# Altium schematic symbol library B-NT_CHIPS.SchLib: 157 symbols (part 1 of 4)
Pins are listed as number, name and electrical type; pins without a type are passive.

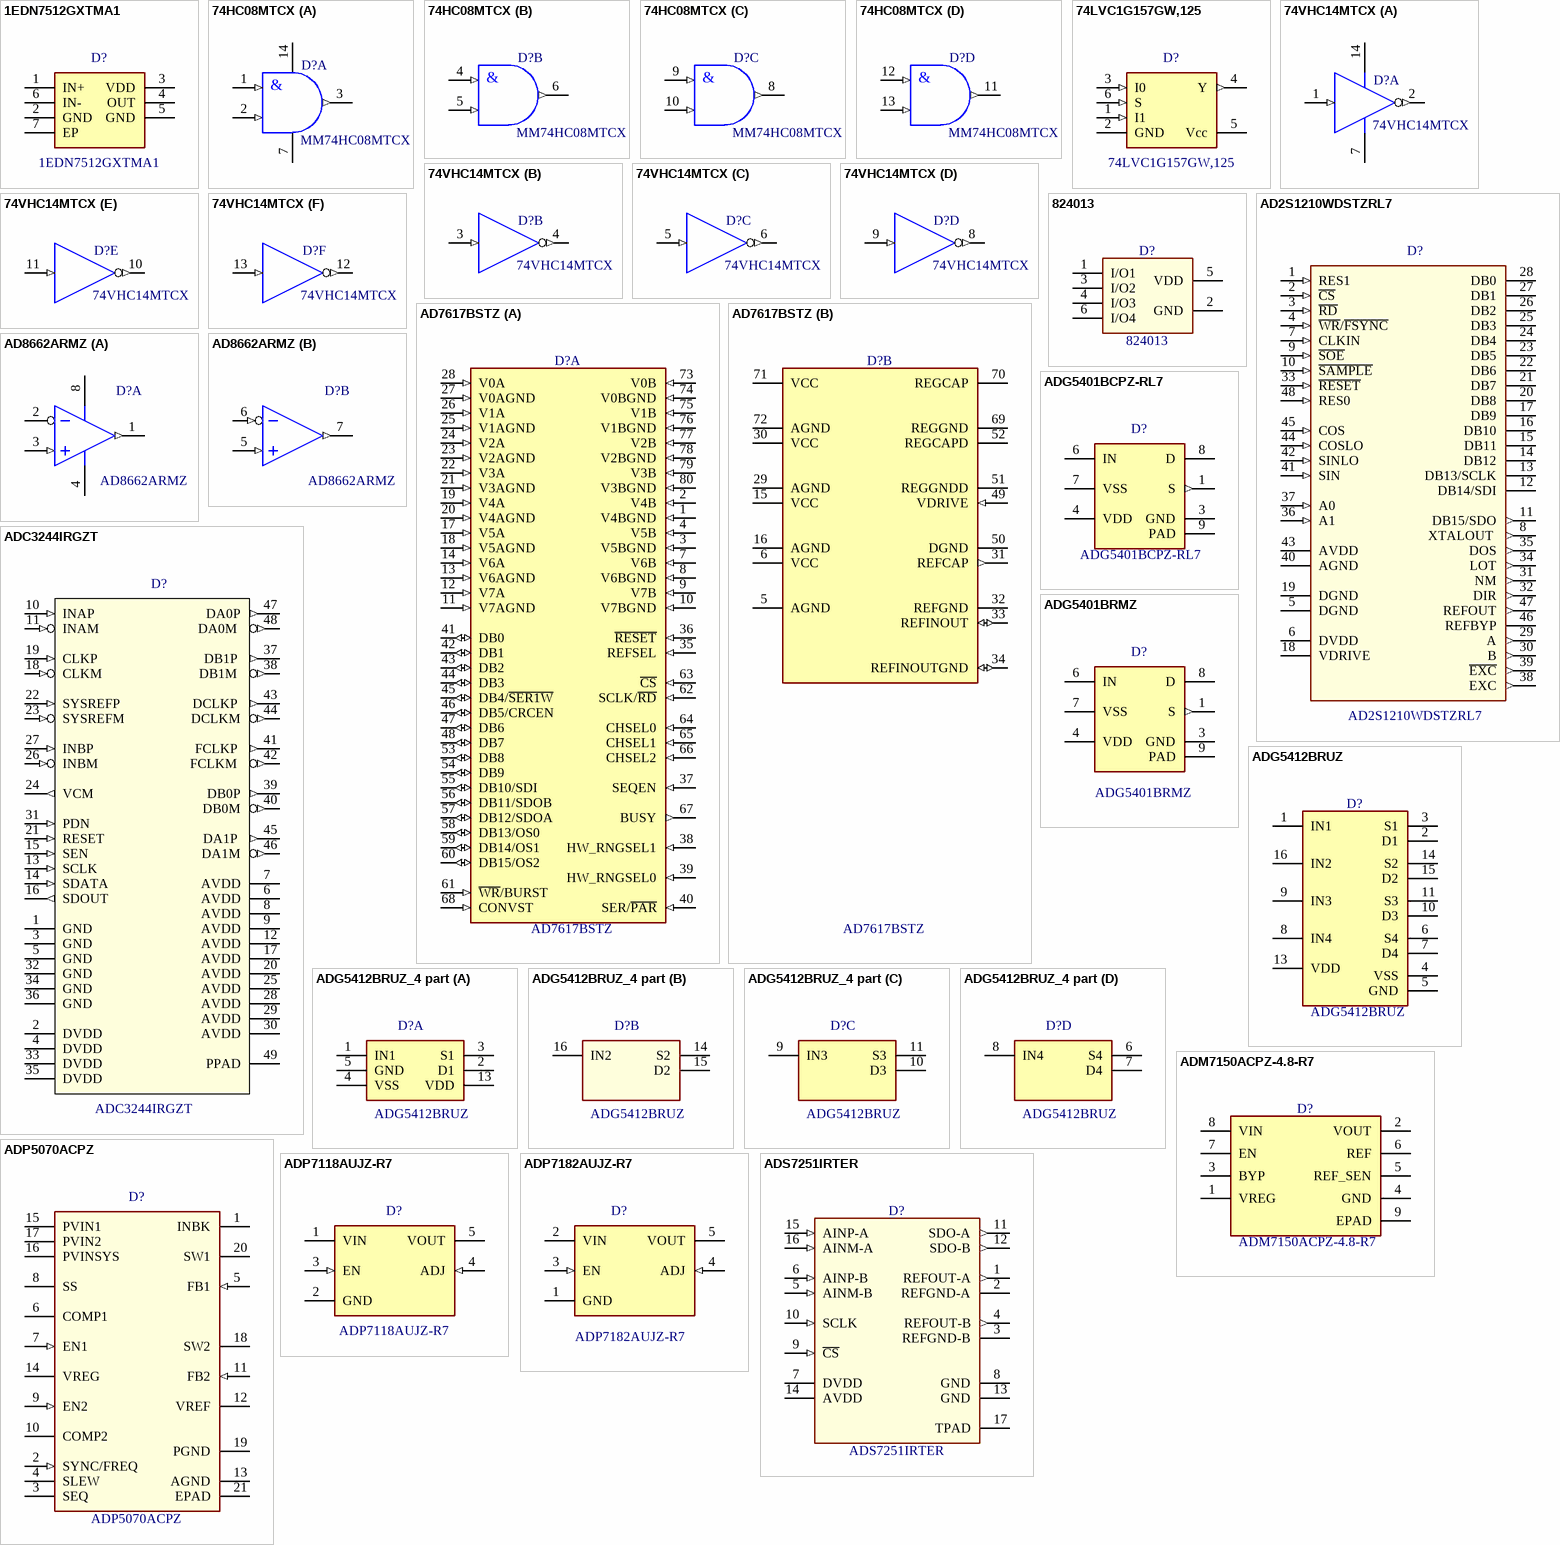
[diagram p0: symbols 1EDN7512GXTMA1 to ADS7251IRTER]

## 1EDN7512GXTMA1
designator D?  value 1EDN7512GXTMA1
IC GATE DVR LOW SIDE 1CH PG-WSON-6-1; ValueManufacturer: Infineon Technologies; PowerVoltage: 4.5 V ~ 20 V; ValueType: Gate Drivers; ValueDescription: 1EDN7512GXTMA1 Одноканальный драйвер 4.5 V ~ 20 V  6WSOP(PG-WSON-6-1); Price: 1.13; Package: 6WSOP(PG-WSON-6-1); ValueManufacturerPartNumber: 1EDN7512GXTMA1; Operating Temperature: -40°C ~ 150°C (TJ); CheckDate: SC *; ComponentLink2Description: Infineon Technologies Datasheet; ComponentLink2URL: https://www.infineon.com/dgdl/Infineon-1DN751x_1EDN851x_Rev+2.0-DS-v02_00-EN.pdf?fileId=5546d462576f34750157e176df0b3ca7
footprint PG-WSON-6-3х3-0.95
pins: 1 IN+, 2 GND (power), 3 VDD (power), 4 OUT, 5 GND (power), 6 IN-, 7 EP

## 74HC08MTCX
designator D?  value MM74HC08MTCX
GATE AND 4CH 2-INP 14-TSSOP; ValueManufacturer: Fairchild/ON Semiconductor; PowerVoltage: 2V~5.5V; ValueDescription: MM74HC08MTCX  Логика 4х2И  2V~5.5V  14-TSSOP (4.40mm); ValueType: Logical AND; Price: 0.38; ComponentLink1Description: Fairchild  Datasheet; ComponentLink1URL: https://www.fairchildsemi.com/datasheets/MM/MM74HC08.pdf; Package: 14-TSSOP (4.40mm); ValueManufacturerPartNumber: MM74HC08MTCX; Operating Temperature: -40°C~85°C; CheckDate: SC 22.03.17
footprint SSOP-14-4.4X5-0.65 (TSSOP, 14-Leads, Body 5.0x4.5mm (max), Pitch 0.65mm, IPC Medium Density)
part A pins: 1 INA (in), 2 INB (in), 3 OUT. (out), 7 VSS, 14 VDD
part B pins: 4 INA (in), 5 INB (in), 6 OUT (out)
part C pins: 8 OUT (out), 9 INA (in), 10 INB (in)
part D pins: 11 OUT (out), 12 INA (in), 13 INB (in)
part A text: &
part B text: &
part C text: &
part D text: &

## 74LVC1G157GW,125
designator D?  value 74LVC1G157GW,125
IC SINGLE 2-INPUT MUX 6TSSOP; ValueManufacturer: Nexperia USA Inc; PowerVoltage: 1.65 V ~ 5.5 V; ValueType: Multiplexers; ValueDescription: 74LVC1G157GW,125 Мультиплексор 1.65 V ~ 5.5 V  6-TSSOP, SC-88, SOT-363; Price: 0.49; Package: 6-TSSOP, SC-88, SOT-363; ValueManufacturerPartNumber: 74LVC1G157GW,125; Operating Temperature: -40°C ~ 125°C; CheckDate: SC *; ComponentLink2Description: Nexperia  Datasheet; ComponentLink2URL: https://assets.nexperia.com/documents/data-sheet/74LVC1G157.pdf
footprint SOT363-6-1.25X2.1-0.65 (TSOP, 6-Leads, Body 2,00x1,25mm, Pitch 0,65mm, IPC Medium Density)
pins: 1 I1 (in), 2 GND (power), 3 I0 (in), 4 Y (out), 5 Vcc (power), 6 S (in)

## 74VHC14MTCX
designator D?  value 74VHC14MTCX
6Ch Inverter Schmitt Trigger 14-TSSOP; ValueManufacturer: Fairchild/ON Semiconductor; PowerVoltage: 2V~5.5V; ValueDescription: 74VHC14MTCX Инвертор 6-каналов  2V~5.5V  14-TSSOP (4.40mm); Price: 0.38; ComponentLink1Description: Fairchild  Datasheet; ComponentLink1URL: https://www.fairchildsemi.com/datasheets/74/74VHC14.pdf; Package: 14-TSSOP (4.40mm); ValueManufacturerPartNumber: 74VHC14MTCX; ValueType: 6Ch Inverter; Operating Temperature: -40°C~85°C; CheckDate: SC 22.03.17
footprint SSOP-14-4.4X5-0.65 (TSSOP, 14-Leads, Body 5.0x4.5mm (max), Pitch 0.65mm, IPC Medium Density)
part A pins: 1 IN+ (in), 2 OUT (out), 7 VSS, 14 VDD
part B pins: 3 IN (in), 4 OUT (out)
part C pins: 5 IN (in), 6 OUT (out)
part D pins: 8 OUT (out), 9 IN (in)
part E pins: 10 OUT (out), 11 IN (in)
part F pins: 12 OUT (out), 13 IN (in)

## 824013
designator D?  value 824013
TVS DIODE 3.3VWM 6VC SOT23; ValueManufacturer: Wurth Electronics Inc.; PowerVoltage: 6В; ValueDescription: 824013 Сборка TVS-диодов 6В  SOT-23-6; ValueType: TVS Diodes; Price: 1.2; ComponentLink1Description: Wurth Electronics Inc.Datasheet; ComponentLink1URL: http://katalog.we-online.de/pbs/datasheet/824013.pdf; Package: SOT-23-6; ValueManufacturerPartNumber: 824013; Operating Temperature: -55°C ~ 125°C (TJ); CheckDate: SC *
footprint SOT23-6-1.6X2.9-0.95 (SOT, 6-Leads, Body 2,9x1,6mm, Pitch 0,95mm)
pins: 1 I/O1, 2 GND (power), 3 I/O2, 4 I/O3, 5 VDD (power), 6 I/O4

## AD2S1210WDSTZRL7
designator D?  value AD2S1210WDSTZRL7
IC CONV R/D VAR 10-Bit to 16-Bit R/D REF OSC 48LQFP; ValueManufacturer: Texas Instruments; PowerVoltage: 4.75 V ~ 5.25 V; ValueDescription: AD2S1210WDSTZRL7 АЦП/ЦАП сбора данных 4.75 V ~ 5.25 V  48-LQFP (7x7); ValueType: ADCs/DACs; Price: 27.53; ComponentLink1Description: Analog Devices Datasheet; ComponentLink1URL: http://www.analog.com/media/en/technical-documentation/data-sheets/AD2S1210.pdf; Package: 48-LQFP (7x7); ValueManufacturerPartNumber: AD2S1210WDSTZRL7; Operating Temperature: -40°C ~ 125°C; CheckDate: SC *
footprint LQFP-48-(7x7)-0.5 (Body 7.2x7.2x1.6mm(max))
pins: 1 RES1 (in) "Resolution Select 1", 2 ~{CS} (in) "Chip Select", 3 ~{RD} (in) "Edge-Triggered Logic Input", 4 ~{WR}/~{FSYNC} (in) "Edge-Triggered Logic Input", 5 DGND (power) "Digital Ground", 6 DVDD (power) "Digital Supply Voltage, 4.75 V to 5.25 V", 7 CLKIN  (in) "Clock Input", 8 XTALOUT  (out) "XTALOUT", 9 ~{SOE} (in) "Serial Output Enable", 10 ~{SAMPLE} (in) "Sample Result", 11 DB15/SDO (out) "Data Bit 15/Serial Data Output Bus", 12 DB14/SDI "Data Bit 14/Serial Data Input Bus", 13 DB13/SCLK "Data Bit 13/Serial Clock", 14 DB12 "Data Bit 12", 15 DB11 "Data Bit 11", 16 DB10 "Data Bit 10", 17 DB9 "Data Bit 9", 18 VDRIVE (power) "Logic Power Supply Input", 19 DGND (power) "Digital Ground", 20 DB8 "Data Bit 8", 21 DB7 "Data Bit 7", 22 DB6 "Data Bit 6", 23 DB5 "Data Bit 5", 24 DB4 "Data Bit 4", 25 DB3 "Data Bit 3", 26 DB2 "Data Bit 2", 27 DB1 "Data Bit 1", 28 DB0 "Data Bit 0", 29 A (out) "Incremental Encoder Emulation Output A", 30 B (out) "Incremental Encoder Emulation Output B", 31 NM (out) "North Marker Incremental Encoder Emulation Output", 32 DIR (out) "Direction. Logic output", 33 ~{RESET} (in) "Reset. Logic input", 34 LOT (out) "Loss of Tracking", 35 DOS (out) "Degradation of Signal", 36 A1 (in) "Mode Select 1", 37 A0 (in) "Mode Select 0", 38 EXC (out) "Excitation Frequency", 39 ~{EXC} (out) "Excitation Frequency Complement", 40 AGND (power) "Analog Ground", 41 SIN (in) "Positive Analog Input of Differential SIN/SINLO Pair", 42 SINLO (in) "Negative Analog Input of Differential SIN/SINLO Pair", 43 AVDD (power) "Analog Supply Voltage, 4.75 V to 5.25 V", 44 COSLO (in) "Negative Analog Input of Differential COS/COSLO Pair", 45 COS (in) "Positive Analog Input of Differential COS/COSLO Pair", 46 REFBYP "Reference Bypass", 47 REFOUT (out) "Voltage Reference Output", 48 RES0 (in) "Resolution Select 0"

## AD7617BSTZ
designator D?  value AD7617BSTZ
1MSPS 16 CH MUXED DUAL 14B SAR A; ValueManufacturer: Analog Devices Inc.; ValueDescription: AD7617BSTZ Аналого-цифровой преобразователь 2.3V~3.6V  80-LQFP (14x14); PowerVoltage: 2.3V~3.6V; ValueType: Analog to digital converter; Price: 21.81000; ComponentLink1Description: Analog Devices Datasheet; ComponentLink1URL: http://www.analog.com/media/en/technical-documentation/data-sheets/AD7617.pdf; Package: 80-LQFP (14x14); Operating Temperature: -40°C~125°C; CheckDate: SC *; ValueManufacturerPartNumber: AD7617BSTZ
footprint LQFP-80-(14x14)-0.65 (Body 14.0x14.0x1.6mm(max))
part A pins: 1 V4BGND (in), 2 V4B (in), 3 V5BGND (in), 4 V5B (in), 7 V6B (in), 8 V6BGND (in), 9 V7B (in), 10 V7BGND (in), 11 V7AGND (in), 12 V7A (in), 13 V6AGND (in), 14 V6A (in), 17 V5A (in), 18 V5AGND (in), 19 V4A (in), 20 V4AGND (in), 21 V3AGND (in), 22 V3A (in), 23 V2AGND (in), 24 V2A (in), 25 V1AGND (in), 26 V1A (in), 27 V0AGND (in), 28 V0A (in), 35 REFSEL (in), 36 ~{RESET} (in), 37 SEQEN (in), 38 HW_RNGSEL1 (in), 39 HW_RNGSEL0 (in), 40 SER/~{PAR} (in), 41 DB0 (io), 42 DB1 (io), 43 DB2 (io), 44 DB3 (io), 45 DB4/~{SER1W} (io), 46 DB5/CRCEN (io), 47 DB6 (io), 48 DB7 (io), 53 DB8 (io), 54 DB9 (io), 55 DB10/SDI (io), 56 DB11/SDOB (io), 57 DB12/SDOA (io), 58 DB13/OS0 (io), 59 DB14/OS1 (io), 60 DB15/OS2 (io), 61 ~{WR}/BURST (in), 62 SCLK/~{RD} (in), 63 ~{CS} (in), 64 CHSEL0 (in), 65 CHSEL1 (in), 66 CHSEL2 (in), 67 BUSY (out), 68 CONVST (in), 73 V0B (in), 74 V0BGND (in), 75 V1B (in), 76 V1BGND (in), 77 V2B (in), 78 V2BGND (in), 79 V3B (in), 80 V3BGND (in)
part B pins: 5 AGND (power), 6 VCC (power), 15 VCC (power), 16 AGND (power), 29 AGND (power), 30 VCC (power), 31 REFCAP (out), 32 REFGND (power), 33 REFINOUT (io), 34 REFINOUTGND (io), 49 VDRIVE (in), 50 DGND (power), 51 REGGNDD (power), 52 REGCAPD (power), 69 REGGND (power), 70 REGCAP (power), 71 VCC (power), 72 AGND (power)

## AD8662ARMZ
designator D?  value AD8662ARMZ
IC OPAMP GP 4MHZ RRO 8MSOP; ValueManufacturer: Analog Devices; ValueManufacturerPartNumber: AD8662ARMZ-REEL; PowerVoltage: 5 V ~ 16 V; ValueDescription: AD8662ARMZ Операционный усилитель 5 V ~ 16 V  8-MSOP  (3.00mm); ValueType: Operational amplifiers; Price: 3.97; ComponentLink1Description: Analog Devices   Datasheet; ComponentLink1URL: http://www.analog.com/media/en/technical-documentation/data-sheets/AD8661_8662.pdf; Package: 8-MSOP  (3.00mm); Operating Temperature: -40°C~125°C; CheckDate: SC *
footprint SSOP-8-3X3-0.65 (MSOP, 8-Leads, Body 3,00x3,00mm, Pitch 0,65mm, IPC Medium Density)
part A pins: 1 VOUTA (out), 2 VINA-, 3 VINA+ (in), 4 V- (power), 8 V+ (power)
part B pins: 5 VINB+ (in), 6 VINB- (in), 7 VOUTB (out)

## ADC3244IRGZT
designator D?  value ADC3244IRGZT
Dual-Channel, 14-Bit, 25-MSPS to 125-MSPS ADC; ValueManufacturer: Texas Instruments; PowerVoltage: 1.7 V ~ 1.9 V; ValueDescription: ADC3244IRGZT АЦП 1.7 V ~ 1.9 V  48-VQFN (7x7); ValueType: Analog to Digital Converters (ADC); Price: 63.56; ComponentLink1Description: TI Datasheet; ComponentLink1URL: https://media.digikey.com/pdf/Data%20Sheets/Texas%20Instruments%20PDFs/ADC324x.pdf; Package: 48-VQFN (7x7); ValueManufacturerPartNumber: ADC3244IRGZT; Operating Temperature: -40°C ~ 85°C; CheckDate: SC *
footprint VQFN-48-7x7-0.5-T (QFN, 48-Leads, Body 7,00x7,00mm, Pitch 0,50mm, Thermal Pad 5,60x5,60mm, IPC Medium Density)
pins: 1 GND (power) "Ground, 0 V", 2 DVDD  (power) "Digital 1.8-V power supply", 3 GND (power) "Ground, 0 V", 4 DVDD  (power) "Digital 1.8-V power supply", 5 GND (power) "Ground, 0 V", 6 AVDD (power) "Analog 1.8-V power supply", 7 AVDD (power) "Analog 1.8-V power supply", 8 AVDD (power) "Analog 1.8-V power supply", 9 AVDD (power) "Analog 1.8-V power supply", 10 INAP  (in) "Positive differential analog input for channel A", 11 INAM  (in) "Negative differential analog input for channel A", 12 AVDD (power) "Analog 1.8-V power supply", 13 SCLK  (in) "Serial interface clock input", 14 SDATA (in) "Serial interface data input", 15 SEN (in) "Serial interface enable", 16 SDOUT (out) "Serial interface data output", 17 AVDD (power) "Analog 1.8-V power supply", 18 CLKM  (in) "Negative differential clock input for the ADC", 19 CLKP  (in) "Positive differential clock input for the ADC", 20 AVDD (power) "Analog 1.8-V power supply", 21 RESET (in) "Hardware reset; active high", 22 SYSREFP  (in) "Positive external SYSREF input", 23 SYSREFM (in) "Negative external SYSREF input", 24 VCM (out) "Common-mode voltage for analog inputs", 25 AVDD (power) "Analog 1.8-V power supply", 26 INBM (in) "Negative differential analog input for channel B", 27 INBP (in) "Positive differential analog input for channel B", 28 AVDD (power) "Analog 1.8-V power supply", 29 AVDD (power) "Analog 1.8-V power supply", 30 AVDD (power) "Analog 1.8-V power supply", 31 PDN (in) "Power-down control", 32 GND (power) "Ground, 0 V", 33 DVDD  (power) "Digital 1.8-V power supply", 34 GND (power) "Ground, 0 V", 35 DVDD  (power) "Digital 1.8-V power supply", 36 GND (power) "Ground, 0 V", 37 DB1P  (out) "Positive serial LVDS output for channel B1", 38 DB1M  (out) "Negative serial LVDS output for channel B1", 39 DB0P (out) "Positive serial LVDS output for channel B0", 40 DB0M (out) "Negative serial LVDS output for channel B0", 41 FCLKP  (out) "Positive frame clock output", 42 FCLKM  (out) "Negative frame clock output", 43 DCLKP  (out) "Positive bit clock output", 44 DCLKM (out) "Negative bit clock output", 45 DA1P  (out) "Positive serial LVDS output for channel A1", 46 DA1M (out) "Negative serial LVDS output for channel A1", 47 DA0P (out) "Positive serial LVDS output for channel A0", 48 DA0M  (out) "Negative serial LVDS output for channel A0", 49 PPAD

## ADG5401BCPZ-RL7
designator D?  value ADG5401BCPZ-RL7
IC SWITCH SPST 8LFCSP; ValueManufacturer: Analog Devices Inc.; ValueDescription: ADG5401BCPZ-RL7 Аналоговый ключ 9 V ~ 40 V  8-WFDFN Exposed Pad, 8-LFCSP-WD (2x3); PowerVoltage: 9 V ~ 40 V; ValueType: Analog Switches; Price: 4.41; ComponentLink1Description: Analog Devices Datasheet; ComponentLink1URL: http://www.analog.com/media/en/technical-documentation/data-sheets/ADG5401.pdf; Package: 8-WFDFN Exposed Pad, 8-LFCSP-WD (2x3); Operating Temperature: -40°C~125°C; CheckDate: SC * delete; ValueManufacturerPartNumber: ADG5401BCPZ-RL7
footprint LFCSP-WD-8-2х3-0.5-T
pins: 1 S (out), 3 GND (power), 4 VDD (power), 6 IN, 7 VSS (power), 8 D, 9 PAD

## ADG5401BRMZ
designator D?  value ADG5401BRMZ
IC SWITCH SPST 8MSOP; ValueManufacturer: Analog Devices Inc.; ValueDescription: ADG5401BRMZ Аналоговый ключ 9 V ~ 40 V  8-TSSOP, 8-MSOP; PowerVoltage: 9 V ~ 40 V; ValueType: Analog Switches; Price: 4.55; ComponentLink1Description: Analog Devices Datasheet; ComponentLink1URL: http://www.analog.com/media/en/technical-documentation/data-sheets/ADG5401.pdf; Package: 8-TSSOP, 8-MSOP; Operating Temperature: -40°C~125°C; CheckDate: SC *; ValueManufacturerPartNumber: ADG5401BRMZ
footprint SSOP-8-3X3-0.65 (MSOP, 8-Leads, Body 3,00x3,00mm, Pitch 0,65mm, IPC Medium Density)
pins: 1 S (out), 3 GND (power), 4 VDD (power), 6 IN, 7 VSS (power), 8 D, 9 PAD

## ADG5412BRUZ
designator D?  value ADG5412BRUZ
4 Circuit IC SWITCH QUAD SPST 16TSSOP; ValueManufacturer: Analog Devices Inc.; ValueManufacturerPartNumber: ADG5412BRUZ-REEL7; ValueDescription: ADG5412BRUZ Аналоговый ключ 9 V ~ 40 V  16-TSSOP (4.40mm Width); PowerVoltage: 9 V ~ 40 V; ValueType: Analog Switches; Price: 6.18; ComponentLink1Description: Analog Devices Datasheet; ComponentLink1URL: http://www.analog.com/media/en/technical-documentation/data-sheets/ADG5412_5413.pdf; Package: 16-TSSOP (4.40mm Width); Operating Temperature: -40°C~125°C; CheckDate: SC *
footprint TSSOP-16-4.4X5-0.65 (QSOP, 16 Leads, Body 5.1x4.5mm (max), Pitch 0.65mm)
pins: 1 IN1 "Logic Control Input 1", 2 D1 "Drain Terminal 1", 3 S1 "Source Terminal 1", 4 VSS (power) "Most Negative Power Supply Potential", 5 GND (power) "Ground (0 V) Reference", 6 S4 "Source Terminal 4", 7 D4 "Drain Terminal 4", 8 IN4 "Logic Control Input 4", 9 IN3 "Logic Control Input 3", 10 D3 "Drain Terminal 4", 11 S3 "Source Terminal 3", 13 VDD "Drain Terminal 4", 14 S2 "Source Terminal 2", 15 D2 "Drain Terminal 2", 16 IN2 "Logic Control Input 2"

## ADG5412BRUZ_4 part
designator D?  value ADG5412BRUZ
4 Circuit IC SWITCH QUAD SPST 16TSSOP; ValueManufacturer: Analog Devices Inc.; ValueDescription: ADG5412BRUZ Аналоговый ключ 9 V ~ 40 V  16-TSSOP (4.40mm Width); PowerVoltage: 9 V ~ 40 V; ValueType: Analog Switches; Price: 6.18; ComponentLink1Description: Analog Devices Datasheet; ComponentLink1URL: http://www.analog.com/media/en/technical-documentation/data-sheets/ADG5412_5413.pdf; Package: 16-TSSOP (4.40mm Width); Operating Temperature: -40°C~125°C; CheckDate: SC *; ValueManufacturerPartNumber: ADG5412BRUZ
footprint TSSOP-16-4.4X5-0.65 (QSOP, 16 Leads, Body 5.1x4.5mm (max), Pitch 0.65mm)
part A pins: 1 IN1 "Logic Control Input 1", 2 D1 "Drain Terminal 1", 3 S1 "Source Terminal 1", 4 VSS (power) "Most Negative Power Supply Potential", 5 GND (power) "Ground (0 V) Reference", 13 VDD (power) "Most Positive Power Supply Potential"
part B pins: 14 S2 "Source Terminal 2", 15 D2 "Drain Terminal 2", 16 IN2 "Logic Control Input 2"
part C pins: 9 IN3 "Logic Control Input 3", 10 D3 "Drain Terminal 4", 11 S3 "Source Terminal 3"
part D pins: 6 S4 "Source Terminal 4", 7 D4 "Drain Terminal 4", 8 IN4 "Logic Control Input 4"

## ADM7150ACPZ-4.8-R7
designator D?  value ADM7150ACPZ-4.8-R7
IC REG LINEAR 4.8V 800MA 8LFCSP; ValueManufacturer: Analog Devices Inc.; ValueDescription: ADM7150ACPZ-4.8-R7 Регулятор напряжения 4.8 V  8-LFCSP-WD (3x3); ValueType: Voltage Regulators; Price: 8.2; ComponentLink1Description: Analog Devices Datasheet; ComponentLink1URL: http://www.analog.com/media/en/technical-documentation/data-sheets/ADM7150.pdf; Package: 8-LFCSP-WD (3x3); Operating Temperature: -40°C~125°C; CheckDate: SC *; PowerVoltage: 4.8 V; ValueManufacturerPartNumber: ADM7150ACPZ-4.8-R7
footprint LFCSP-WD-8-3х3-0.5-T (8-Lead Frame Chip Scale Package [LFCSP_WD]  3 mm ? 3 mm Body)
pins: 1 VREG (power), 2 VOUT, 3 BYP, 4 GND (power), 5 REF_SEN, 6 REF, 7 EN, 8 VIN, 9 EPAD

## ADP5070ACPZ
designator D?  value ADP5070ACPZ
IC REG BST SEPIC INV ADJ 20LFCSP; ValueManufacturer: Analog Devices Inc.; PowerVoltage: 15V; ValueDescription: ADP5070ACPZ Импульсный стабилизатор 15V  WFQFN-20; CheckDate: SC *; OperatingTemperature: -40°C ~ +125°C; Package: WFQFN-20; Price: 5.86$; ValueManufacturerPartNumber: ADP5070ACPZ; ComponentLink1Description: Analog Devices Datasheet; ComponentLink1URL: http://www.analog.com/media/en/technical-documentation/data-sheets/ADP5070.pdf
footprint WFQFN-20-(4x4)-0.5-T (QFN, 20-Leads, Body 4,00x4,00mm, Pitch 0,50mm, Thermal Pad 2,55x2,55mm, IPC Medium Density)
pins: 1 INBK, 2 SYNC/FREQ (in), 3 SEQ, 4 SLEW, 5 FB1 (in), 6 COMP1, 7 EN1 (in), 8 SS, 9 EN2 (in), 10 COMP2, 11 FB2 (in), 12 VREF, 13 AGND, 14 VREG, 15 PVIN1, 16 PVINSYS, 17 PVIN2, 18 SW2, 19 PGND, 20 SW1, 21 EPAD

## ADP7118AUJZ-R7
designator D?  value ADP7118AUJZ-R7
IC REG LINEAR 200MA TSOT23-5; ValueManufacturer: Analog Devices Inc.; ValueDescription: ADP7118AUJZ-R7 Регулятор напряжения 20V  SOT-23-5 Thin, TSOT-23-5; PowerVoltage: 20V; ValueType: Linear Voltage Regulator; Price: 2.36000; ComponentLink1Description: Analog Devices Datasheet; ComponentLink1URL: http://www.analog.com/media/en/technical-documentation/data-sheets/ADP7118.pdf; Package: SOT-23-5 Thin, TSOT-23-5; Operating Temperature: -40°C~+125°C; CheckDate: SC *; ValueManufacturerPartNumber: ADP7118AUJZ-R7
footprint TSOT23-5-1.4X3-0.95 (SOT-23/SC-74A; 5 Leads; Body 3.1 x 3 mm, inc. leads (LxW max))
pins: 1 VIN (power) "Logic Control Input 1", 2 GND (power), 3 EN (in), 4 ADJ (in), 5 VOUT (power)

## ADP7182AUJZ-R7
designator D?  value ADP7182AUJZ-R7
IC REG LINEAR 200mA 5TSOT; ValueManufacturer: Analog Devices Inc.; ValueDescription: ADP7182AUJZ-R7 Регулятор напряжения -1.22 V ~ - 27.64 V  SOT-23-5 Thin, TSOT-23-5; PowerVoltage: -1.22 V ~ - 27.64 V; ValueType: Linear Voltage Regulator; Price: 3.86; ComponentLink1Description: Analog Devices Datasheet; ComponentLink1URL: http://www.analog.com/media/en/technical-documentation/data-sheets/ADP7182.pdf; Package: SOT-23-5 Thin, TSOT-23-5; Operating Temperature: -40°C~125°C; CheckDate: SC *; ValueManufacturerPartNumber: ADP7182AUJZ-R7
footprint TSOT23-5-1.4X3-0.95 (SOT-23/SC-74A; 5 Leads; Body 3.1 x 3 mm, inc. leads (LxW max))
pins: 1 GND (power), 2 VIN "Logic Control Input 1", 3 EN (in), 4 ADJ (in), 5 VOUT

## ADS7251IRTER
designator D?  value ADS7251IRTER
12 Bit ADC 2 Input 2 SAR 16-WQFN (3x3); ValueManufacturer: Texas Instruments; PowerVoltage: 1.65 V ~ 5.25 V; ValueDescription: ADS7251IRTER АЦП 1.65 V ~ 5.25 V  16-WQFN (3x3); ValueType: Analog to Digital Converter; Price: 9.71; ComponentLink1Description: TI Datasheet; ComponentLink1URL: http://www.ti.com/lit/ds/symlink/ads7251.pdf; Package: 16-WQFN (3x3); ValueManufacturerPartNumber: ADS7251IRTER; Operating Temperature: -40°C ~ 125°C; CheckDate: SC *
footprint WQFN-16-(3x3)-0.5-T (Body 3.15x3.15x0.8mm(max))
pins: 1 REFOUT-A (out) "Reference voltage output, REF_A", 2 REFGND-A (power) "Reference ground potential, channel A", 3 REFGND-B (power) "Reference ground potential, channel B", 4 REFOUT-B (out) "Reference voltage output, REF_B", 5 AINM-B (in) "Negative analog input, channel B", 6 AINP-B (in) "Positive analog input, channel B", 7 DVDD (power) "Digital I/O supply", 8 GND (power) "Digital ground", 9 ~{CS} (in) "Chip-select signal; active low", 10 SCLK (in) "Serial communication clock", 11 SDO-A (out) "Data output for serial communication, channel A", 12 SDO-B (out) "Data output for serial communication, channel B", 13 GND (power) "Digital ground", 14 AVDD (power) "ADC supply voltage", 15 AINP-A (in) "Positive analog input, channel A", 16 AINM-A (in) "Negative analog input, channel A", 17 TPAD (power) "Exposed thermal pad"

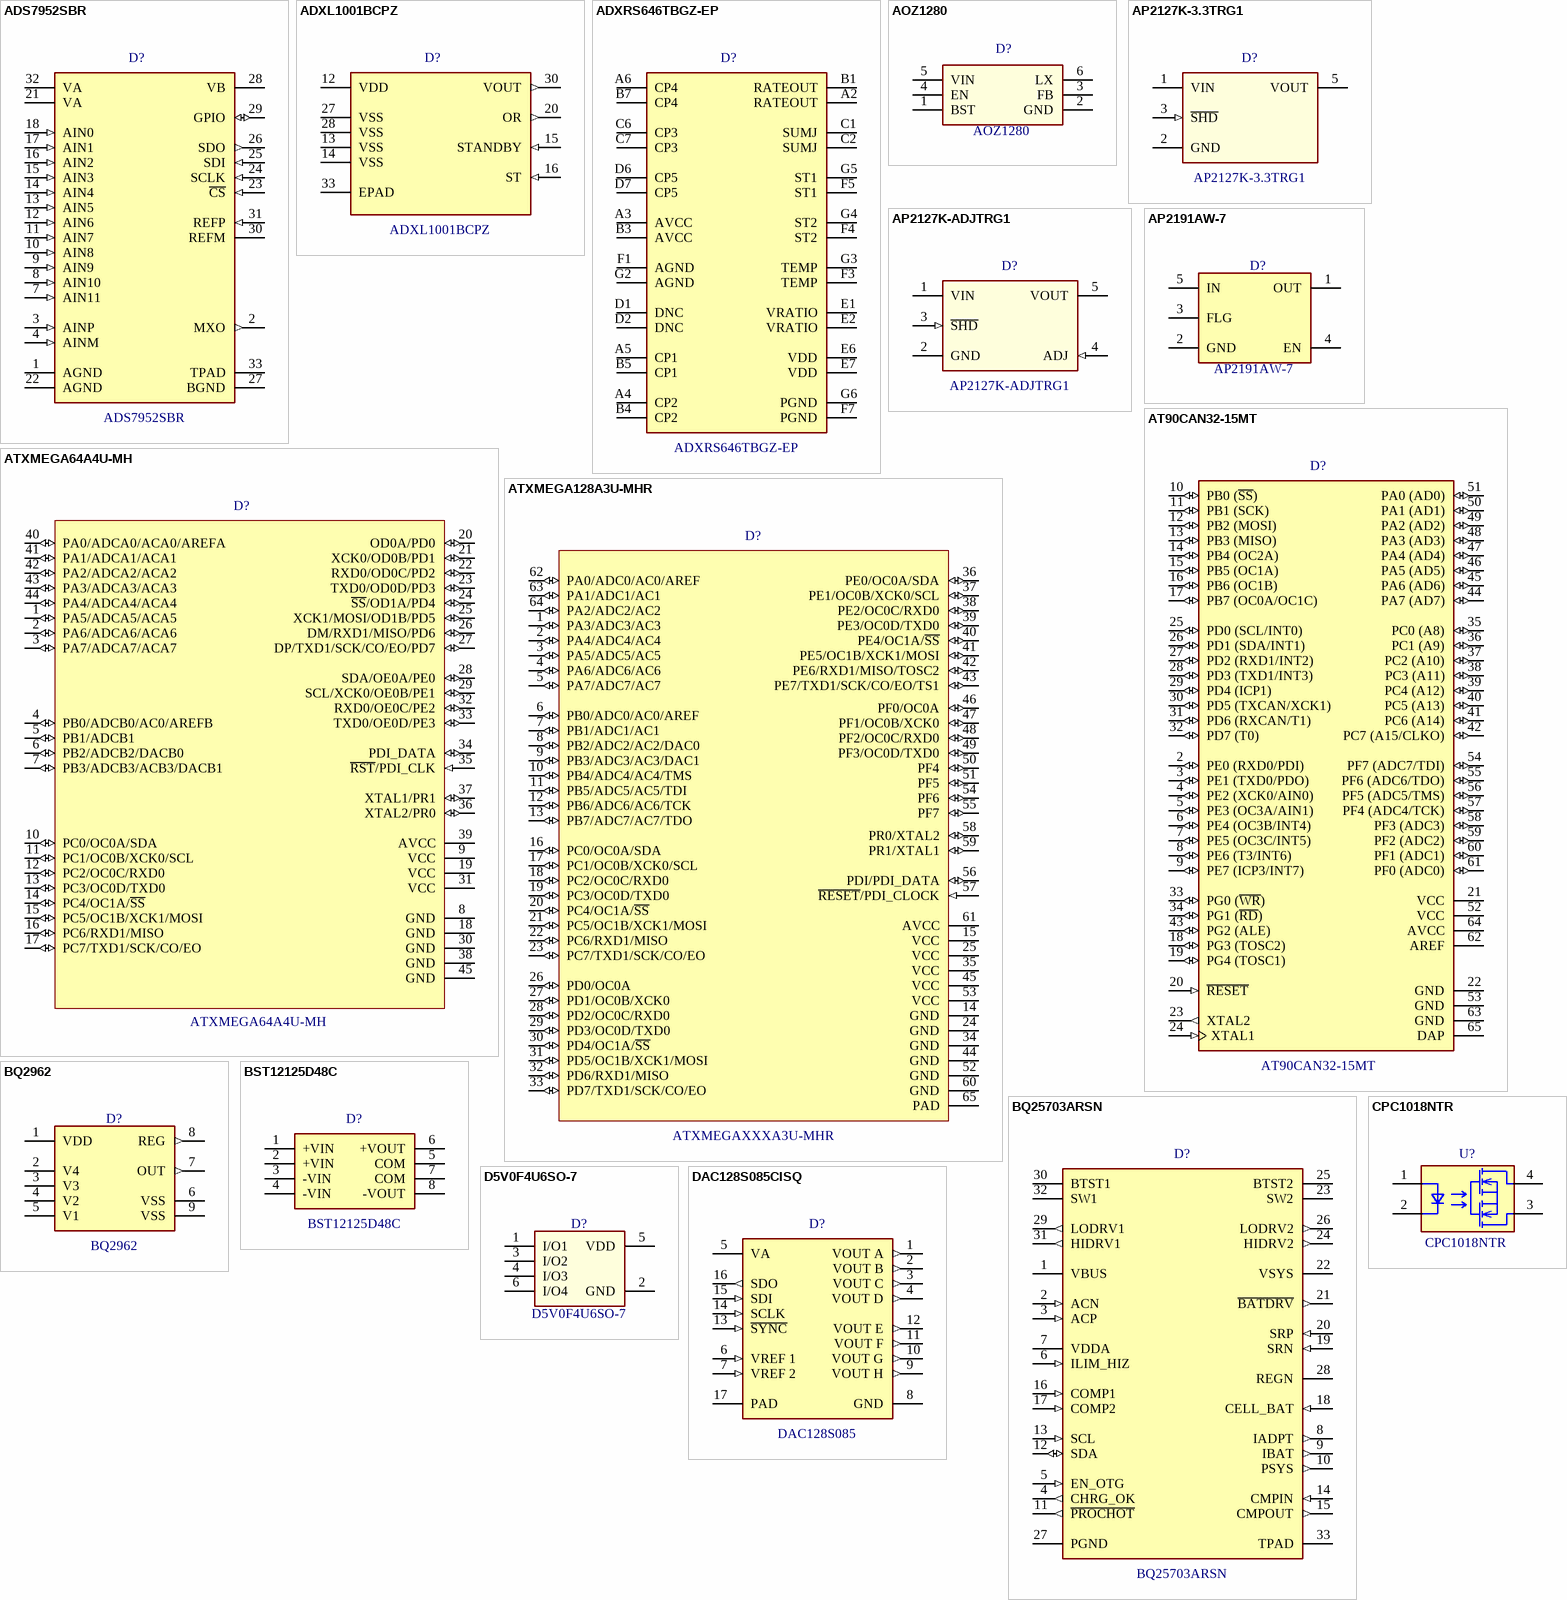
[diagram p1: symbols ADS7952SBR to DAC128S085CISQ]

## ADS7952SBR
designator D?  value ADS7952SBR
12 x 12 Bit ADC SAR 32-VQFN (5x5); ValueManufacturer: Texas Instruments; PowerVoltage: 1.7V~5.25V; ValueDescription: ADS7952SBR АЦП 12вх. 12разр. 1.7V~5.25V  32-VQFN(5x5); ValueType: Analog to Digital Converter; Price: 9.49; ComponentLink1Description: TI Datasheet; ComponentLink1URL: http://www.ti.com/lit/ds/symlink/ads7952.pdf; Package: 32-VQFN(5x5); ValueManufacturerPartNumber: ADS7952SBR; Operating Temperature: -40°C~125°C; CheckDate: SC 22.03.17
footprint QFN-32-5X5-0.5-T (QFN, 32-Leads with exposed die pad, Body 5.1x5.1mm (max), Pitch 0.50mm, IPC Medium Density)
pins: 1 AGND "Ground analog", 2 MXO (out) "Multiplexer output", 3 AINP (in) "Signal input to ADC", 4 AINM (in) "ADC input ground", 7 AIN11 (in) "ADC", 8 AIN10 (in) "ADC", 9 AIN9 (in) "ADC", 10 AIN8 (in) "ADC", 11 AIN7 (in) "ADC", 12 AIN6 (in) "ADC", 13 AIN5 (in) "ADC", 14 AIN4 (in) "ADC", 15 AIN3 (in) "ADC", 16 AIN2 (in) "ADC", 17 AIN1 (in) "ADC", 18 AIN0 (in) "ADC", 21 VA "Power analog", 22 AGND "Ground analog", 23 ~{CS} (in) "Chip select", 24 SCLK (in) "Serial clock input", 25 SDI (in) "Serial data input", 26 SDO (out) "Serial data output", 27 BGND "Ground digital", 28 VB "Power digital", 29 GPIO (io) "General purpose input or output", 30 REFM "Reference ground", 31 REFP (in) "Reference input", 32 VA "Power analog", 33 TPAD "Thermal pad"

## ADXL1001BCPZ
designator D?  value ADXL1001BCPZ
ACCELEROMETER ANALOG X Axis 21kHz QFN; ValueManufacturer: Analog Devices Inc; PowerVoltage: 3.3 V ~ 5.25 V; ValueDescription: ADXL1001BCPZ Акселерометр 3.3 V ~ 5.25 V  32-VQFN(5x5); ValueType: Accelerometers; Price: 53.53; ComponentLink1Description: Analog Devices Datasheet; ComponentLink1URL: http://www.analog.com/media/en/technical-documentation/data-sheets/ADXL1001-1002.pdf; Package: 32-VQFN(5x5); ValueManufacturerPartNumber: ADXL1001BCPZ; Operating Temperature: -40°C~125°C; CheckDate: SC *
footprint QFN-32-5X5-0.5-T (QFN, 32-Leads with exposed die pad, Body 5.1x5.1mm (max), Pitch 0.50mm, IPC Medium Density)
pins: 12 VDD (power) "3.3 V to 5.25 V Supply Voltage", 13 VSS (power) "Supply Ground", 14 VSS (power) "Supply Ground", 15 STANDBY (in) "Standby mode Input, Active High", 16 ST (in) "Self Test Input, Active High", 20 OR (out) "Overrange Output", 27 VSS (power) "Supply Ground", 28 VSS (power) "Supply Ground", 30 VOUT (out) "Analog Output Voltage", 33 EPAD "Exposed Pad. The exposed pad on the bottom of the package must be connected to ground"

## ADXRS646TBGZ-EP
designator D?  value ADXRS646TBGZ-EP
Gyroscope Z (Yaw) ±250 1kHz Analog Voltage 32-CBGA (7x7); ValueManufacturer: Analog Devices Inc; PowerVoltage: 5.75 V ~ 6.25 V; ValueDescription: ADXRS646TBGZ-EP Гироскоп 5.75 V ~ 6.25 V  32-BFCBGA; ValueType: Gyroscopes; Price: 142.98; ComponentLink1Description: Analog Devices Datasheet; ComponentLink1URL: http://www.analog.com/media/en/technical-documentation/data-sheets/ADXRS646-EP.pdf; Package: 32-BFCBGA; ValueManufacturerPartNumber: ADXRS646TBGZ-EP; Operating Temperature: -55°C ~ 105°C (TA); CheckDate: SC *
footprint BGA32_P8_7X7 (CBGA, 32-Leads, Body 7x7mmx3,8mm, Pitch 0,80mm)
pins: A2 RATEOUT "Rate Signal Output", A3 AVCC (power) "Positive Analog Supply", A4 CP2 "Charge Pump Capacitor, 22 nF (±5%)", A5 CP1 "Charge Pump Capacitor, 22 nF (±5%)", A6 CP4 "Charge Pump Capacitor, 22 nF (±5%)", B1 RATEOUT "Rate Signal Output", B3 AVCC (power) "Positive Analog Supply", B4 CP2 "Charge Pump Capacitor, 22 nF (±5%)", B5 CP1 "Charge Pump Capacitor, 22 nF (±5%)", B7 CP4 "Charge Pump Capacitor, 22 nF (±5%)", C1 SUMJ "Output Amp Summing Junction", C2 SUMJ, C6 CP3 "Charge Pump Capacitor, 22 nF (±5%)", C7 CP3 "Charge Pump Capacitor, 22 nF (±5%)", D1 DNC "Do Not Connect to this Pin", D2 DNC "Do Not Connect to this Pin", D6 CP5 "HV Filter Capacitor, 100nF (±5%)", D7 CP5 "HV Filter Capacitor, 100nF (±5%)", E1 VRATIO (power) "Reference Supply for Ratiometric Output", E2 VRATIO (power) "Reference Supply for Ratiometric Output", E6 VDD (power) "Positive Charge Pump Supply", E7 VDD (power) "Positive Charge Pump Supply", F1 AGND (power) "Analog Supply Return", F3 TEMP "Temperature Voltage Output", F4 ST2 "Self-Test for Sensor 2", F5 ST1 "Self-Test for Sensor 1", F7 PGND (power) "Charge Pump Supply Return", G2 AGND (power) "Analog Supply Return", G3 TEMP "Temperature Voltage Output", G4 ST2 "Self-Test for Sensor 2", G5 ST1 "Self-Test for Sensor 1", G6 PGND (power) "Charge Pump Supply Return"

## AOZ1280
designator D?  value AOZ1280
IC REG BUCK ADJ 1.2A SOT23-6; ValueManufacturer: Alpha & Omega Semiconductor Inc.; PowerVoltage: 26V; ValueDescription: AOZ1280 Стабилизатор напряжения 26V  SOT-23-6; ValueType: IC Switching Regulator; CheckDate: SC *; ComponentLink2Description: http://www.aosmd.com/; ComponentLink2URL: http://aosmd.com/res/data_sheets/AOZ1280CI.pdf; Package: SOT-23-6; ValueManufacturerPartNumber: AOZ1280; Price: 0.70; Operating Temperature: -40 ~ +85
footprint TSOT23-6-1.4X3-0.95 (SSOT, 6-Leads, Body 2,9x1,75mm, Pitch 0,95mm)
pins: 1 BST (power), 2 GND (power), 3 FB, 4 EN, 5 VIN, 6 LX

## AP2127K-3.3TRG1
designator D?  value AP2127K-3.3TRG1
LDO 3.3V 300mA VINmax=6V SOT-23-5 SOT-753; ValueManufacturer: Diodes Incorporated; ValueDescription: AP2127K-3.3TRG1 Линейный преобразователь 3.3V 300mA  SOT-23-5 (SOT-753)  VINmax=6V; ValueType: Power Management; Price: 0.5; ComponentLink1Description: Diodes Incorporated Datasheet; ComponentLink1URL: http://www.diodes.com/_files/datasheets/AP2127.pdf; Package: SOT-23-5 (SOT-753); PowerVoltage: 3.3V 300mA; TechSpec: VINmax=6V; ValueManufacturerPartNumber: AP2127K-3.3TRG1; Operating Temperature: -40°C~85°C; CheckDate: SC 19.12.16
footprint TSOT23-5-1.4X3-0.95 (SOT-23/SC-74A; 5 Leads; Body 3.1 x 3 mm, inc. leads (LxW max))
pins: 1 VIN, 2 GND, 3 ~{SHD} (in), 5 VOUT

## AP2127K-ADJTRG1
designator D?  value AP2127K-ADJTRG1
LDO 0.8V~5.5V 300mA VINmax=6V SOT-23-5 SOT-753; ValueManufacturer: Diodes Incorporated; ValueDescription: AP2127K-ADJTRG1 Линейный преобразователь 0.8V~5.5V 300mA  SOT-23-5 (SOT-753)  VINmax=6V; ValueType: Power Management; Price: 0.45; ComponentLink1Description: Diodes Incorporated Datasheet; ComponentLink1URL: http://www.diodes.com/_files/datasheets/AP2127.pdf; Package: SOT-23-5 (SOT-753); PowerVoltage: 0.8V~5.5V 300mA; TechSpec: VINmax=6V; ValueManufacturerPartNumber: AP2127K-ADJTRG1; Operating Temperature: -40°C~85°C; CheckDate: SC 19.12.16
footprint SOT363-6-1.25X2.1-0.65 (TSOP, 6-Leads, Body 2,00x1,25mm, Pitch 0,65mm, IPC Medium Density)
simulation model AP2127_ADJ (DIODES-BCD AP2127 ADJ Version Spice Model v1.0)
footprint TSOT23-5-1.4X3-0.95 (SOT-23/SC-74A; 5 Leads; Body 3.1 x 3 mm, inc. leads (LxW max))
pins: 1 VIN, 2 GND, 3 ~{SHD} (in), 4 ADJ (in), 5 VOUT

## AP2191AW-7
designator D?  value AP2191AW-7
IC USB SW HISIDE SGL 1.5A SOT25; ValueManufacturer: Diodes Incorporated; ValueDescription: AP2191AW-7 Kлюч 2.7 V ~ 5.5 V  SOT-25, SC-74A, SOT-753; PowerVoltage: 2.7 V ~ 5.5 V; ValueType: Power Distribution Switches; Price: 0.54; ComponentLink1Description: Diodes Incorporated Datasheet; ComponentLink1URL: https://www.diodes.com/assets/Datasheets/AP2181A_91A.pdf; Package: SOT-25, SC-74A, SOT-753; Operating Temperature: -40°C~85°C; CheckDate: SC *; ValueManufacturerPartNumber: AP2191AW-7
footprint TSOT23-5-1.4X3-0.95 (SOT-23/SC-74A; 5 Leads; Body 3.1 x 3 mm, inc. leads (LxW max))
pins: 1 OUT, 2 GND, 3 FLG, 4 EN, 5 IN

## AT90CAN32-15MT
designator D?  value AT90CAN32-15MT
8-bit AVR MCU 64-Pin VQFN; ValueManufacturer: Atmel; PowerVoltage: 2.7V~5.5V; ValueDescription: AT90CAN32-15MT Микроконтроллер 2.7V~5.5V  64-VFQFN EXPD (9x9mm); ValueType: Microcontroller; Price: 10.0; ComponentLink1Description: Atmel Datasheet; ComponentLink1URL: http://www.atmel.com/dyn/resources/prod_documents/doc7682.pdf; Package: 64-VFQFN EXPD (9x9mm); ValueManufacturerPartNumber: AT90CAN32-15MT; Operating Temperature: -40°C ~ 85°C; CheckDate: SC 18.12.16
footprint QFN-64-9X9-0.5-T (QFN, 64-Leads, Body 9x9mm, Pitch 0.5mm, Thermal Pad 5.5x5.5mm, IPC Low Density)
pins: 2 PE0 (RXD0/PDI) (io), 3 PE1 (TXD0/PDO) (io), 4 PE2 (XCK0/AIN0) (io), 5 PE3 (OC3A/AIN1) (io), 6 PE4 (OC3B/INT4) (io), 7 PE5 (OC3C/INT5) (io), 8 PE6 (T3/INT6) (io), 9 PE7 (ICP3/INT7) (io), 10 PB0 (~{SS}) (io), 11 PB1 (SCK) (io), 12 PB2 (MOSI) (io), 13 PB3 (MISO) (io), 14 PB4 (OC2A) (io), 15 PB5 (OC1A) (io), 16 PB6 (OC1B) (io), 17 PB7 (OC0A/OC1C) (io), 18 PG3 (TOSC2) (io), 19 PG4 (TOSC1) (io), 20 ~{RESET} (in), 21 VCC, 22 GND, 23 XTAL2 (out), 24 XTAL1 (in), 25 PD0 (SCL/INT0) (io), 26 PD1 (SDA/INT1) (io), 27 PD2 (RXD1/INT2) (io), 28 PD3 (TXD1/INT3) (io), 29 PD4 (ICP1) (io), 30 PD5 (TXCAN/XCK1) (io), 31 PD6 (RXCAN/T1) (io), 32 PD7 (T0) (io), 33 PG0 (~{WR}) (io), 34 PG1 (~{RD}) (io), 35 PC0 (A8) (io), 36 PC1 (A9) (io), 37 PC2 (A10) (io), 38 PC3 (A11) (io), 39 PC4 (A12) (io), 40 PC5 (A13) (io), 41 PC6 (A14) (io), 42 PC7 (A15/CLKO) (io), 43 PG2 (ALE) (io), 44 PA7 (AD7) (io), 45 PA6 (AD6) (io), 46 PA5 (AD5) (io), 47 PA4 (AD4) (io), 48 PA3 (AD3) (io), 49 PA2 (AD2) (io), 50 PA1 (AD1) (io), 51 PA0 (AD0) (io), 52 VCC, 53 GND, 54 PF7 (ADC7/TDI) (io), 55 PF6 (ADC6/TDO) (io), 56 PF5 (ADC5/TMS) (io), 57 PF4 (ADC4/TCK) (io), 58 PF3 (ADC3) (io), 59 PF2 (ADC2) (io), 60 PF1 (ADC1) (io), 61 PF0 (ADC0) (io), 62 AREF, 63 GND, 64 AVCC, 65 DAP

## ATXMEGA64A4U-MH
designator D?  value ATXMEGA64A4U-MH
8/16-Bit AVR MCU 32MHz FLASH 44-QFN (7x7); ValueManufacturer: Atmel; PowerVoltage: 1.6V~3.6V; ValueDescription: ATXMEGA64A4U-MH Микроконтроллер 1.6V~3.6V  44-VFQFN Exposed Pad (7x7); ValueType: Microcontroller; Price: 4.1; ComponentLink1Description: Atmel Datasheet; ComponentLink1URL: http://ww1.microchip.com/downloads/en/DeviceDoc/Atmel-8387-8-and16-bit-AVR-Microcontroller-XMEGA-A4U_Datasheet.pdf; Package: 44-VFQFN Exposed Pad (7x7); ValueManufacturerPartNumber: ATXMEGA64A4U-MH; Operating Temperature: -40°C~85°C; CheckDate: SC 21.10.17
footprint QFN-44-7X7-0.5-T (QFN, 44-Leads, Body 7,00x7,00mm, Pitch 0,50mm, Thermal Pad 5,20x5,20mm, IPC Medium Density)
pins: 1 PA5/ADCA5/ACA5 (io), 2 PA6/ADCA6/ACA6 (io), 3 PA7/ADCA7/ACA7 (io), 4 PB0/ADCB0/AC0/AREFB (io), 5 PB1/ADCB1 (io), 6 PB2/ADCB2/DACB0 (io), 7 PB3/ADCB3/ACB3/DACB1 (io), 8 GND, 9 VCC, 10 PC0/OC0A/SDA (io), 11 PC1/OC0B/XCK0/SCL (io), 12 PC2/OC0C/RXD0 (io), 13 PC3/OC0D/TXD0 (io), 14 PC4/OC1A/~{SS} (io), 15 PC5/OC1B/XCK1/MOSI (io), 16 PC6/RXD1/MISO (io), 17 PC7/TXD1/SCK/CO/EO (io), 18 GND, 19 VCC, 20 OD0A/PD0 (io), 21 XCK0/OD0B/PD1 (io), 22 RXD0/OD0C/PD2 (io), 23 TXD0/OD0D/PD3 (io), 24 ~{SS}/OD1A/PD4 (io), 25 XCK1/MOSI/OD1B/PD5 (io), 26 DM/RXD1/MISO/PD6 (io), 27 DP/TXD1/SCK/CO/EO/PD7 (io), 28 SDA/OE0A/PE0 (io), 29 SCL/XCK0/OE0B/PE1 (io), 30 GND, 31 VCC, 32 RXD0/OE0C/PE2 (io), 33 TXD0/OE0D/PE3 (io), 34 PDI_DATA (io), 35 ~{RST}/PDI_CLK (in), 36 XTAL2/PR0 (io), 37 XTAL1/PR1 (io), 38 GND, 39 AVCC, 40 PA0/ADCA0/ACA0/AREFA (io), 41 PA1/ADCA1/ACA1 (io), 42 PA2/ADCA2/ACA2 (io), 43 PA3/ADCA3/ACA3 (io), 44 PA4/ADCA4/ACA4 (io), 45 GND "PAD"

## ATXMEGA128A3U-MHR
designator D?  value ATXMEGAXXXA3U-MHR
8/16-Bit AVR MCU 32MHz FLASH 64-QFN (9x9); ValueManufacturer: Atmel; ValueManufacturerPartNumber: ATXMEGA128A3U-MHR; PowerVoltage: 1.6V~3.6V; ValueDescription: ATXMEGAXXXA3U-MHR Микроконтроллер 1.6V~3.6V  64-VFQFN EXPD (9x9mm); ValueType: Microcontroller; Price: 6.55; ComponentLink1Description: Atmel Datasheet; ComponentLink1URL: http://www.atmel.com/Images/Atmel-8386-8-and-16-bit-AVR-Microcontroller-ATxmega64A3U-128A3U-192A3U-256A3U_datasheet.pdf; Package: 64-VFQFN EXPD (9x9mm); Operating Temperature: -40°C~85°C; CheckDate: SC 22.03.17
footprint QFN-64-9X9-0.5-T (QFN, 64-Leads, Body 9x9mm, Pitch 0.5mm, Thermal Pad 5.5x5.5mm, IPC Low Density)
pins: 1 PA3/ADC3/AC3 (io), 2 PA4/ADC4/AC4 (io), 3 PA5/ADC5/AC5 (io), 4 PA6/ADC6/AC6 (io), 5 PA7/ADC7/AC7 (io), 6 PB0/ADC0/AC0/AREF (io), 7 PB1/ADC1/AC1 (io), 8 PB2/ADC2/AC2/DAC0 (io), 9 PB3/ADC3/AC3/DAC1 (io), 10 PB4/ADC4/AC4/TMS (io), 11 PB5/ADC5/AC5/TDI (io), 12 PB6/ADC6/AC6/TCK (io), 13 PB7/ADC7/AC7/TDO (io), 14 GND, 15 VCC, 16 PC0/OC0A/SDA (io), 17 PC1/OC0B/XCK0/SCL (io), 18 PC2/OC0C/RXD0 (io), 19 PC3/OC0D/TXD0 (io), 20 PC4/OC1A/~{SS} (io), 21 PC5/OC1B/XCK1/MOSI (io), 22 PC6/RXD1/MISO (io), 23 PC7/TXD1/SCK/CO/EO (io), 24 GND, 25 VCC, 26 PD0/OC0A (io), 27 PD1/OC0B/XCK0 (io), 28 PD2/OC0C/RXD0 (io), 29 PD3/OC0D/TXD0 (io), 30 PD4/OC1A/~{SS} (io), 31 PD5/OC1B/XCK1/MOSI (io), 32 PD6/RXD1/MISO (io), 33 PD7/TXD1/SCK/CO/EO (io), 34 GND, 35 VCC, 36 PE0/OC0A/SDA (io), 37 PE1/OC0B/XCK0/SCL (io), 38 PE2/OC0C/RXD0 (io), 39 PE3/OC0D/TXD0 (io), 40 PE4/OC1A/~{SS} (io), 41 PE5/OC1B/XCK1/MOSI (io), 42 PE6/RXD1/MISO/TOSC2 (io), 43 PE7/TXD1/SCK/CO/EO/TS1 (io), 44 GND, 45 VCC, 46 PF0/OC0A (io), 47 PF1/OC0B/XCK0 (io), 48 PF2/OC0C/RXD0 (io), 49 PF3/OC0D/TXD0 (io), 50 PF4 (io), 51 PF5 (io), 52 GND, 53 VCC, 54 PF6 (io), 55 PF7 (io), 56 PDI/PDI_DATA (io), 57 ~{RESET}/PDI_CLOCK (in), 58 PR0/XTAL2 (io), 59 PR1/XTAL1 (io), 60 GND, 61 AVCC, 62 PA0/ADC0/AC0/AREF (io), 63 PA1/ADC1/AC1 (io), 64 PA2/ADC2/AC2 (io), 65 PAD

## BQ2962
designator D?  value BQ2962
BATT PROT 2-4CELL LIION 8WSON; ValueManufacturer: Texas Instruments; PowerVoltage: -0,3V~30V ??; ValueDescription: BQ2962 Детектор перенапряжения аккумулятора -0,3V~30V ??  8-WSON (2x2); ValueType: Battery Protection; Price: 0.9; ComponentLink1Description: Texas Instruments Datasheet; ComponentLink1URL: http://www.ti.com/lit/ds/symlink/bq2962.pdf; Package: 8-WSON (2x2); ValueManufacturerPartNumber: BQ2962; Operating Temperature: -40°C~110°C; CheckDate: SC *
footprint SON-8-2X2-0.5-T
pins: 1 VDD "Power", 2 V4 "Sense input for positive voltage of the lowest cell from the bottom of the  stack.", 3 V3 "Sense input for positive voltage of the lowest cell from the bottom of the  stack.", 4 V2 "Sense input for positive voltage of the lowest cell from the bottom of the  stack.", 5 V1 "Sense input for positive voltage of the lowest cell from the bottom of the  stack.", 6 VSS "Ground", 7 OUT (out) "Analog Output drive for overvoltage fault signal", 8 REG (out) "Analog Output drive for overvoltage fault signal", 9 VSS

## BQ25703ARSN
designator D?  value BQ25703ARSN
Multi-Chemistry Battery Battery Monitor QFN (4x4); ValueManufacturer: Texas Instruments; PowerVoltage: 3.5V~24V 6.35A; ValueDescription: BQ25703ARSN  Контроллер заряда батарей 3.5V~24V 6.35A  32-QFN (4x4); Price: 6.08; ComponentLink1Description: Texas Instruments Datasheet; ComponentLink1URL: http://www.ti.com/lit/ds/symlink/bq25703a.pdf; Package: 32-QFN (4x4); ValueManufacturerPartNumber: BQ25703ARSN; ValueType: Battery Monitor; Operating Temperature: -40°C~85°C; CheckDate: SC 27.10.17
footprint QFN-32-4X4-0.4-T (QFN, 32-Leads with exposed die pad, Body 5.1x5.1mm (max), Pitch 0.50mm, IPC Medium Density)
pins: 1 VBUS, 2 ACN (in), 3 ACP (in), 4 CHRG_OK (out), 5 EN_OTG (in), 6 ILIM_HIZ (in), 7 VDDA, 8 IADPT (out), 9 IBAT (out), 10 PSYS (out), 11 ~{PROCHOT} (out), 12 SDA (io), 13 SCL (in), 14 CMPIN (in), 15 CMPOUT (out), 16 COMP1 (in), 17 COMP2 (in), 18 CELL_BAT (in), 19 SRN (in), 20 SRP (in), 21 ~{BATDRV} (out), 22 VSYS, 23 SW2, 24 HIDRV2 (out), 25 BTST2, 26 LODRV2 (out), 27 PGND, 28 REGN, 29 LODRV1 (out), 30 BTST1, 31 HIDRV1 (out), 32 SW1, 33 TPAD

## BST12125D48C
designator D?  value BST12125D48C
CONV DC/DC +/-12V +/-125MA DIP; ValueManufacturer: Murata Power Solutions Inc.; PowerVoltage: 8W  18~72VAC; ValueDescription: BST12125D48C Преобразователь напряжения Murata Power Solutions Inc.  8W  18~72VAC; ValueType: DC-DC; Price: 29.26000; ComponentLink1Description: Murata Power Solutions Inc. Datasheet; ComponentLink1URL: https://power.murata.com/data/power/bst-3w.pdf; Package: 8-DIP Module; ValueManufacturerPartNumber: BST12125D48C; Operating Temperature: -40°C~+75°C; CheckDate: *
footprint BST12125D48C ((31.75mm x 20.32mm x 12.07mm))
pins: 1 +VIN, 2 +VIN, 3 -VIN, 4 -VIN, 5 COM, 6 +VOUT, 7 COM, 8 -VOUT

## CPC1018NTR
designator U?  value CPC1018NTR
Optoisolator 300V. 150mA 4-SOP (2.54mm); ValueManufacturer: IXYS; PowerVoltage: 60V 600mA; ValueDescription: CPC1018NTR  Оптопара 60V 600mA  4-SOP (4.40mm); Price: 3.22; ComponentLink1Description: IXYS Datasheet; ComponentLink1URL: http://www.ixysic.com/home/pdfs.nsf/www/CPC1018N.pdf/$file/CPC1018N.pdf; Package: 4-SOP (4.40mm); ValueManufacturerPartNumber: CPC1018NTR; ValueType: Optoisolator; Operating Temperature: -40°C~85°C; CheckDate: SC 21.10.17
footprint SOP-4-3.8X4.4-2.54 (SOP, 4-Leads, Body 3,80x4,40mm, Pitch 2,54mm, IPC Medium Density)
pins: 1 +control "Current input", 2 -control "Current output", 3 load "Current output", 4 load "Current input"

## D5V0F4U6SO-7
designator D?  value D5V0F4U6SO-7
TVS DIODE 5.5V 12V SOT-23-6; ValueManufacturer: Diodes Incorporated; PowerVoltage: 6В; ValueDescription: D5V0F4U6SO-7 Сборка TVS-диодов 6В  SOT-23-6; ValueType: TVS Diodes; Price: 0.46; ComponentLink1Description: Diodes Incorporated Datasheet; ComponentLink1URL: https://www.diodes.com/assets/Datasheets/D5V0F4U6SO.pdf; Package: SOT-23-6; ValueManufacturerPartNumber: D5V0F4U6SO-7; Operating Temperature: -65°C ~ 150°C (TJ); CheckDate: SC *
footprint SOT23-6-1.6X2.9-0.95 (SOT, 6-Leads, Body 2,9x1,6mm, Pitch 0,95mm)
pins: 1 I/O1, 2 GND (power), 3 I/O2, 4 I/O3, 5 VDD (power), 6 I/O4

## DAC128S085CISQ
designator D?  value DAC128S085
8 x 12 Bit DAC  16-WQFN (4x4); ValueManufacturer: Texas Instruments; ValueManufacturerPartNumber: DAC128S085CISQ; PowerVoltage: 2.7V~5.5V; ValueDescription: DAC128S085 ЦАП 8кан. 12разр. 2.7V~5.5V  16-WQFN(4x4); ValueType: Digital to Analog Converter; Price: 11.58; ComponentLink1Description: TI Datasheet; ComponentLink1URL: http://www.ti.com/product/DAC128S085/datasheet?keyMatch=DAC128S085&tisearch=Search-EN-Everything; Package: 16-WQFN(4x4); Operating Temperature: -40°C~125°C; CheckDate: SC 22.03.17
footprint QFN-16-4X4-0.5-T (QFN, 16-Leads with exposed die pad, Body 4.1x4.1mm (max), Pitch 0.50mm, IPC Medium Density)
pins: 1 VOUT A (out) "Analog Output Voltage", 2 VOUT B (out) "Analog Output Voltage", 3 VOUT C (out) "Analog Output Voltage", 4 VOUT D (out) "Analog Output Voltage", 5 VA "Power analog", 6 VREF 1 (in) "Unbuffered reference voltage shared by Channels A, B, C, and D. Must be  decoupled to GND.", 7 VREF 2 (in) "Unbuffered reference voltage shared by Channels E, F, G, and H. Must be  decoupled to GND.", 8 GND "Ground", 9 VOUT H (out) "Analog Output Voltage", 10 VOUT G (out) "Analog Output Voltage", 11 VOUT F (out) "Analog Output Voltage", 12 VOUT E (out) "Analog Output Voltage", 13 ~{SYNC} (in) "Synchronization Input", 14 SCLK (in) "Serial clock input", 15 SDI (in) "Serial data input", 16 SDO (out) "Serial data output", 17 PAD "Ground"

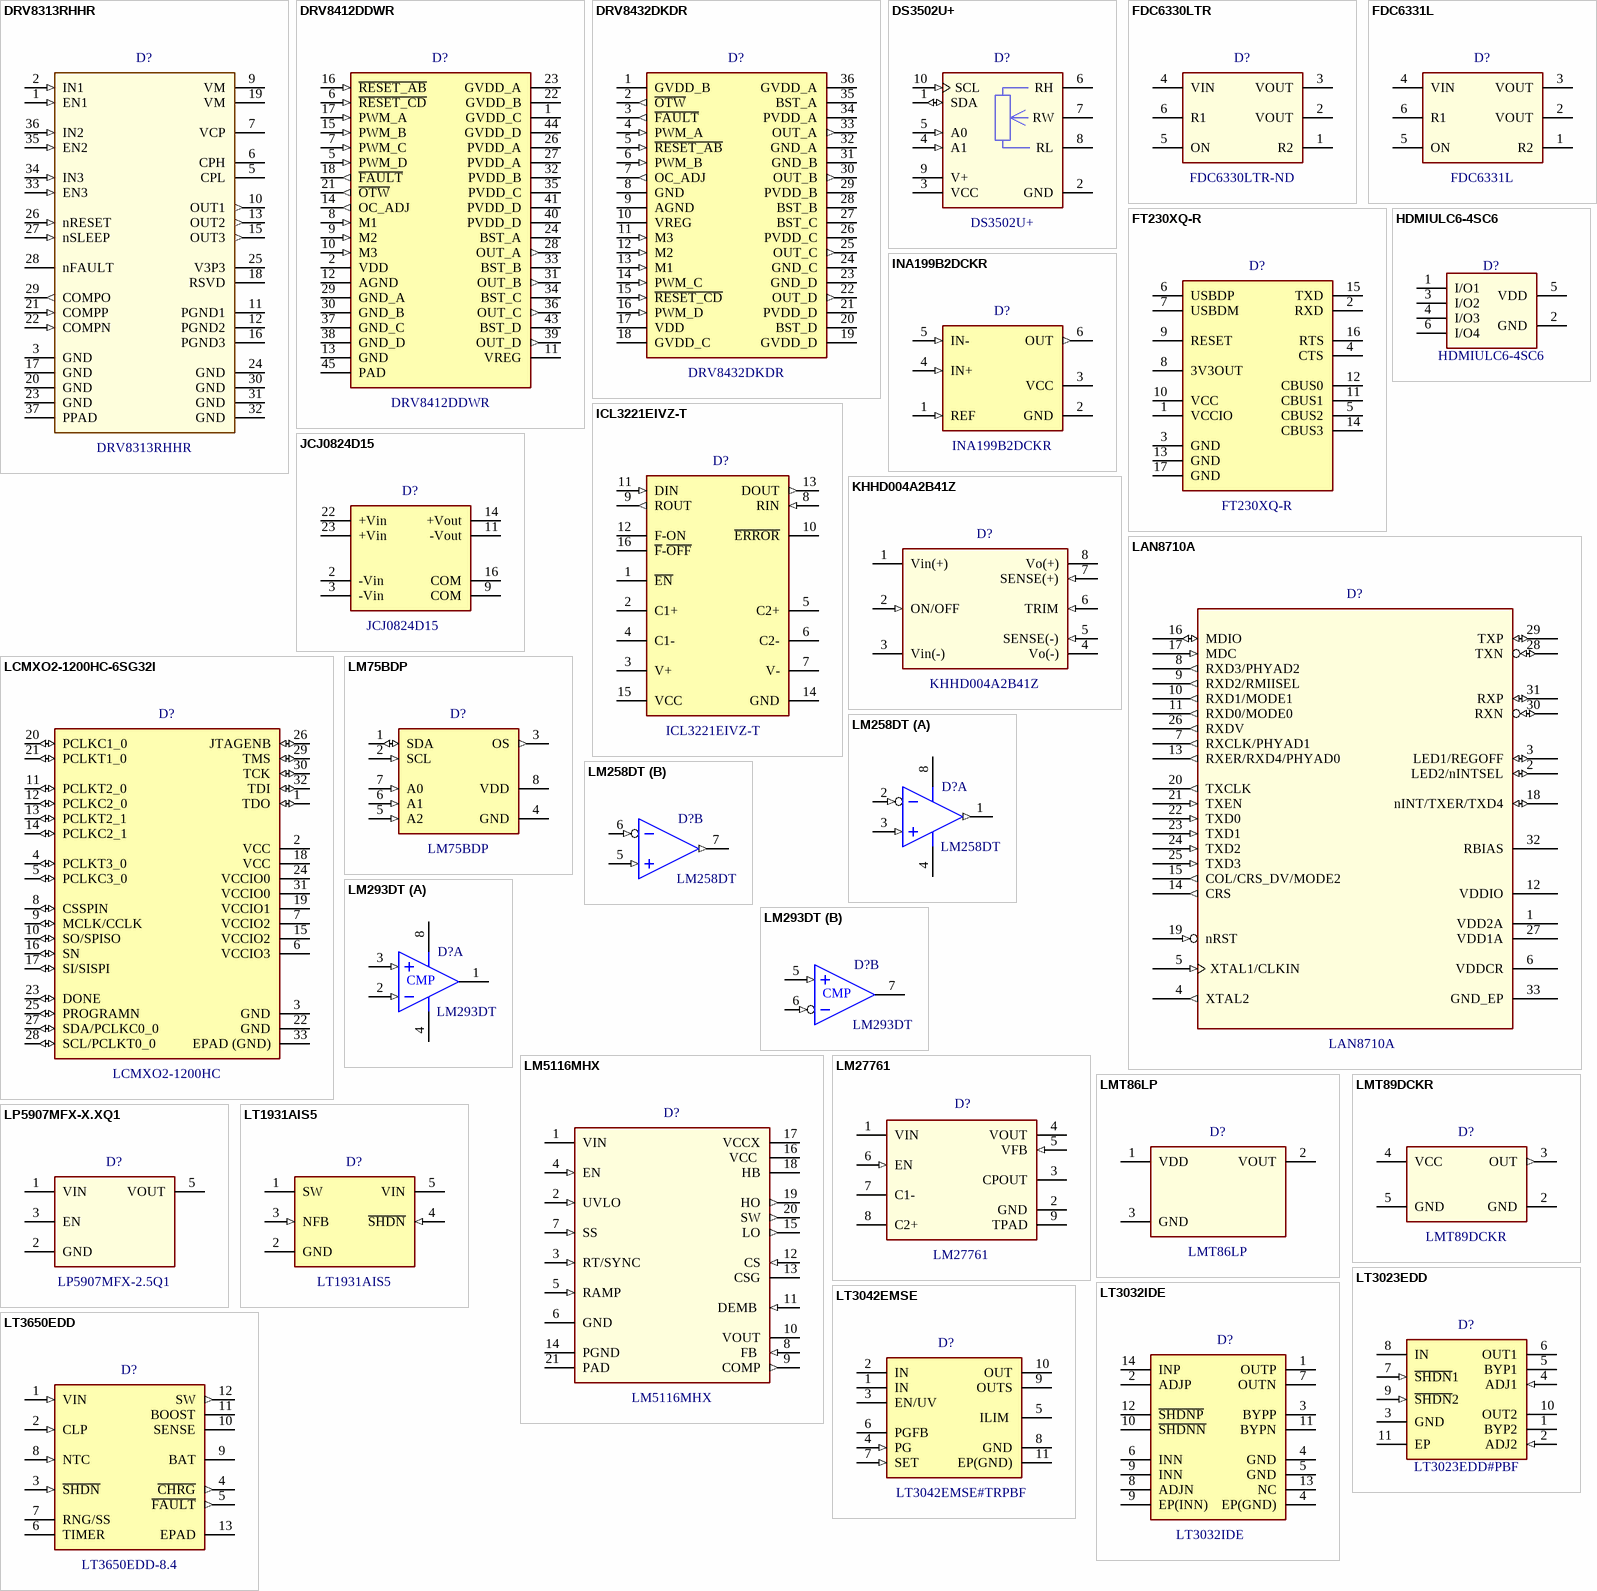
[diagram p2: symbols DRV8313RHHR to LT3650EDD]

## DRV8313RHHR
designator D?  value DRV8313RHHR
IC MOTOR DRIVER PAR 36VQFN; ValueManufacturer: Texas Instruments; PowerVoltage: 8 V ~ 60 V; ValueDescription: DRV8313RHHR Драйвер мотора 8 V ~ 60 V  36-VQFN (6x6); ValueType: Motor Drivers; Price: 3,65; ComponentLink1Description: TI Datasheet; ComponentLink1URL: http://www.ti.com/lit/ds/symlink/drv8313.pdf; Package: 36-VQFN (6x6); ValueManufacturerPartNumber: DRV8313RHHR; Operating Temperature: -40°C ~ 150°C (TJ); CheckDate: SC *
footprint VQFN-36 (6x6)-0.5-T (Body 6.1x6.1x1mm(max))
pins: 1 EN1 (in) "Channel enable", 2 IN1 (in) "Channel input", 3 GND (power) "Device ground", 5 CPL (power) "Charge pump", 6 CPH (power) "Charge pump", 7 VCP (power) "Charge pump", 9 VM (power) "Power supply", 10 OUT1 (out) "Half-H bridge output", 11 PGND1 (power) "Low-side FET source", 12 PGND2 (power) "Low-side FET source", 13 OUT2 (out) "Half-H bridge output", 15 OUT3 (out) "Half-H bridge output", 16 PGND3 (power) "Low-side FET source", 17 GND (power) "Device ground", 18 RSVD "Reserved", 19 VM (power) "Power supply", 20 GND (power) "Device ground", 21 COMPP (in) "Comparator positive input", 22 COMPN (in) "Comparator negative input", 23 GND (power) "Device ground", 24 GND (power) "Device ground", 25 V3P3 (power) "Internal regulator", 26 nRESET (in) "Reset input", 27 nSLEEP (in) "Sleep mode input", 28 nFAULT (oc) "Fault indication pin", 29 COMPO (out) "Comparator output", 30 GND (power) "Device ground", 31 GND (power) "Device ground", 32 GND (power) "Device ground", 33 EN3 (in) "Channel enable", 34 IN3 (in) "Channel input", 35 EN2 (in) "Channel enable", 36 IN2 (in) "Channel input", 37 PPAD (power) "Must be connected to ground"

## DRV8412DDWR
designator D?  value DRV8412DDWR
Half Bridge (4) Driver DC Motors, Stepper Motors Power MOSFET 36-HSSOP; ValueManufacturer: Texas Instruments; PowerVoltage: 10.8~13.2V; ValueDescription: DRV8412DDWR Драйвер мотора 10.8~13.2V  44-TSSOP (6.20mm); Price: 7.39; ComponentLink1Description: TI Datasheet; ComponentLink1URL: http://www.ti.com/lit/ds/symlink/drv8432.pdf; Package: 44-TSSOP (6.20mm); ValueManufacturerPartNumber: DRV8412DDWR; ValueType: Driver DC Motors; Operating Temperature: -40°C~150°C; CheckDate: SC 21.10.17
footprint TSSOP-44-6X14-0.635-T-SPECIAL
pins: 1 GVDD_C (power) "Gate-drive voltage supply", 2 VDD (power) "Power supply for digital voltage regulator requires capacitor to ground for  decoupling.", 5 PWM_D (in) "Input signal for half-bridge", 6 ~{RESET_CD} (in) "Reset signal for half-bridge C and half-bridge D, active-low", 7 PWM_C (in) "Input signal for half-bridge", 8 M1 (in) "Mode selection pin", 9 M2 (in) "Mode selection pin", 10 M3 (in) "Reserved mode selection pin, AGND connection is recommended", 11 VREG (power) "Digital regulator supply filter pin requires 0.1-μF capacitor to AGND.", 12 AGND (power) "Ground analog", 13 GND (power) "Ground", 14 OC_ADJ (out) "Analog overcurrent programming pin, requires resistor to AGND", 15 PWM_B (in) "Input signal for half-bridge", 16 ~{RESET_AB} (in) "Reset signal for half-bridge A and half-bridge B, active-low", 17 PWM_A (in) "Input signal for half-bridge", 18 ~{FAULT} (out) "Fault signal, open-drain, active-low. An internal pullup resistor to VREG (3.3 V) is  provided on output. Level compliance for 5-V logic can be obtained by adding  external pullup resistor to 5 V", 21 ~{OTW} (out) "Overtemperature warning signal, open-drain, active-low. An internal pullup resistor  to VREG (3.3 V) is provided on output. Level compliance for 5-V logic can be  obtained by adding external pullup resistor to 5 V", 22 GVDD_B (power) "Gate-drive voltage supply", 23 GVDD_A (power) "Gate-drive voltage supply", 24 BST_A (power) "High side bootstrap supply (BST), external capacitor to OUT_X required", 26 PVDD_A (power) "Power supply input for half-bridge X requires close decoupling capacitor to ground", 27 PVDD_A (power) "Power supply input for half-bridge X requires close decoupling capacitor to ground", 28 OUT_A (out) "Output, half-bridge", 29 GND_A (power) "Power ground for half-bridge", 30 GND_B (power) "Power ground for half-bridge", 31 OUT_B (out) "Output, half-bridge", 32 PVDD_B (power) "Power supply input for half-bridge X requires close decoupling capacitor to ground", 33 BST_B (power) "High side bootstrap supply (BST), external capacitor to OUT_X required", 34 BST_C (power) "High side bootstrap supply (BST), external capacitor to OUT_X required", 35 PVDD_C (power) "Power supply input for half-bridge X requires close decoupling capacitor to ground", 36 OUT_C (out) "Output, half-bridge", 37 GND_C (power) "Power ground for half-bridge", 38 GND_D (power) "Power ground for half-bridge", 39 OUT_D (out) "Output, half-bridge", 40 PVDD_D (power) "Power supply input for half-bridge X requires close decoupling capacitor to ground", 41 PVDD_D (power) "Power supply input for half-bridge X requires close decoupling capacitor to ground", 43 BST_D (power) "High side bootstrap supply (BST), external capacitor to OUT_X required", 44 GVDD_D (power) "Gate-drive voltage supply", 45 PAD (power) "Ground"

## DRV8432DKDR
designator D?  value DRV8432DKDR
Half Bridge (4) Driver DC Motors, Stepper Motors Power MOSFET 36-HSSOP; ValueManufacturer: Texas Instruments; PowerVoltage: 10.8~13.2V; ValueDescription: DRV8432DKDR Драйвер мотора 10.8~13.2V  36-HSSOP; Price: 10.71; ComponentLink1Description: TI Datasheet; ComponentLink1URL: http://www.ti.com/lit/ds/symlink/drv8432.pdf; Package: 36-HSSOP; ValueManufacturerPartNumber: DRV8432DKDR; ValueType: Driver DC Motors; Operating Temperature: -40°C~150°C; CheckDate: SC 21.10.17
footprint HSSOP-36-11X16-0.65-SPECIAL (TOP-EXPOPAD +  radiator)
pins: 1 GVDD_B (power) "Gate-drive voltage supply", 2 ~{OTW} (out) "Overtemperature warning signal, open-drain, active-low. An internal pullup resistor  to VREG (3.3 V) is provided on output. Level compliance for 5-V logic can be  obtained by adding external pullup resistor to 5 V", 3 ~{FAULT} (out) "Fault signal, open-drain, active-low. An internal pullup resistor to VREG (3.3 V) is  provided on output. Level compliance for 5-V logic can be obtained by adding  external pullup resistor to 5 V", 4 PWM_A (in) "Input signal for half-bridge", 5 ~{RESET_AB} (in) "Reset signal for half-bridge A and half-bridge B, active-low", 6 PWM_B (in) "Input signal for half-bridge", 7 OC_ADJ (out) "Analog overcurrent programming pin, requires resistor to AGND", 8 GND (power) "Ground", 9 AGND (power) "Ground analog", 10 VREG (power) "Digital regulator supply filter pin requires 0.1-μF capacitor to AGND.", 11 M3 (in) "Reserved mode selection pin, AGND connection is recommended", 12 M2 (in) "Mode selection pin", 13 M1 (in) "Mode selection pin", 14 PWM_C (in) "Input signal for half-bridge", 15 ~{RESET_CD} (in) "Reset signal for half-bridge C and half-bridge D, active-low", 16 PWM_D (in) "Input signal for half-bridge", 17 VDD (power) "Power supply for digital voltage regulator requires capacitor to ground for  decoupling.", 18 GVDD_C (power) "Gate-drive voltage supply", 19 GVDD_D (power) "Gate-drive voltage supply", 20 BST_D (power) "High side bootstrap supply (BST), external capacitor to OUT_X required", 21 PVDD_D (power) "Power supply input for half-bridge X requires close decoupling capacitor to ground", 22 OUT_D (out) "Output, half-bridge", 23 GND_D (power) "Power ground for half-bridge", 24 GND_C (power) "Power ground for half-bridge", 25 OUT_C (out) "Output, half-bridge", 26 PVDD_C (power) "Power supply input for half-bridge X requires close decoupling capacitor to ground", 27 BST_C (power) "High side bootstrap supply (BST), external capacitor to OUT_X required", 28 BST_B (power) "High side bootstrap supply (BST), external capacitor to OUT_X required", 29 PVDD_B (power) "Power supply input for half-bridge X requires close decoupling capacitor to ground", 30 OUT_B (out) "Output, half-bridge", 31 GND_B (power) "Power ground for half-bridge", 32 GND_A (power) "Power ground for half-bridge", 33 OUT_A (out) "Output, half-bridge", 34 PVDD_A (power) "Power supply input for half-bridge X requires close decoupling capacitor to ground", 35 BST_A (power) "High side bootstrap supply (BST), external capacitor to OUT_X required", 36 GVDD_A (power) "Gate-drive voltage supply"

## DS3502U+
designator D?  value DS3502U+
ISC Digital Potentiometer 10kOhm 2.5V~5.5V. 4.5V~15.5V 10-MSOP; ValueManufacturer: Maxim Integrated; PowerVoltage: 2.8V~5.5V; Tolerance: ±20% ±4 ppm/°C; ValueDescription: DS3502U+ Цифровой потенциометр 10-MSOP (3.00mm)  ±20% ±4 ppm/°C; Price: 1.0; ComponentLink1Description: Maxim Integrated Datasheet; ComponentLink1URL: http://datasheets.maximintegrated.com/en/ds/DS3502.pdf; Package: 10-MSOP (3.00mm); ValueManufacturerPartNumber: DS3502U+; ValueType: Digital Potentiometer; Operating Temperature: -40°C ~ 100°C; CheckDate: SC 23.12.16
footprint MSOP-10-3X3-0.5 (MSOP-10, Body 3x3mm)
pins: 1 SDA (io) "I2C Serial Data. Input/output for I2C data.", 2 GND "Ground Terminal", 3 VCC "Supply Voltage Terminal", 4 A1 (in) "Address Select Inputs. Determines I2C slave address. Slave address is 01010A1A0X. (See the Slave Address Byte and Address Pins section for details).", 5 A0 (in) "Address Select Inputs. Determines I2C slave address. Slave address is 01010A1A0X. (See the Slave Address Byte and Address Pins section for details).", 6 RH "High Terminal of Potentiometer", 7 RW "Wiper Terminal of Potentiometer", 8 RL "Low Terminal of Potentiometer", 9 V+ "Wiper Bias Voltage", 10 SCL (in) "I2C Serial Clock. Input for I2C clock."

## FDC6330LTR
designator D?  value FDC6330LTR-ND
LOAD SWITCH INT 2.8A 8VIN SSOT-6; ValueManufacturer: Fairchild/ON Semiconductor; PowerVoltage: 3~20V 2.3A; ValueDescription: FDC6330LTR-ND  Выключатель нагрузки 3~20V 2.3A  TSOT-23-6; Price: 0.65; ComponentLink1Description: Onsemi Datasheet; ComponentLink1URL: https://www.fairchildsemi.com/datasheets/FD/FDC6330L.pdf; Package: TSOT-23-6; ValueManufacturerPartNumber: FDC6330LTR-ND; ValueType: Load switch; Operating Temperature: -55°C~150°C; CheckDate: SC *
footprint TSOT23-6-1.4X3-0.95 (SSOT, 6-Leads, Body 2,9x1,75mm, Pitch 0,55mm)
pins: 1 R2, 2 VOUT, 3 VOUT, 4 VIN, 5 ON, 6 R1

## FDC6331L
designator D?  value FDC6331L
LOAD SWITCH INT 2.8A 8VIN SSOT-6; ValueManufacturer: Fairchild/ON Semiconductor; PowerVoltage: 2.5~8V 2.8A; ValueDescription: FDC6331L  Выключатель нагрузки 2.5~8V 2.8A  SSOT-6L (TSOT-23-6); Price: 0.65; ComponentLink1Description: Onsemi Datasheet; ComponentLink1URL: https://www.fairchildsemi.com/datasheets/FD/FDC6331L.pdf; Package: SSOT-6L (TSOT-23-6); ValueManufacturerPartNumber: FDC6331L; ValueType: Load switch; Operating Temperature: -55°C~150°C; CheckDate: SC 03.03.17
footprint TSOT23-6-1.4X3-0.95 (SSOT, 6-Leads, Body 2,9x1,75mm, Pitch 0,55mm)
pins: 1 R2, 2 VOUT, 3 VOUT, 4 VIN, 5 ON, 6 R1